# EAGLE library part ESP32-S3R2 (library ESP32-S3R2)
Check availability <https://pricing.snapeda.com/parts/ESP32-S3R2/Espressif%20Systems/view-part?ref=eda> Check availability <https://pricing.snapeda.com/parts/ESP32-S3R2/Espressif%20Systems/view-part?ref=eda>
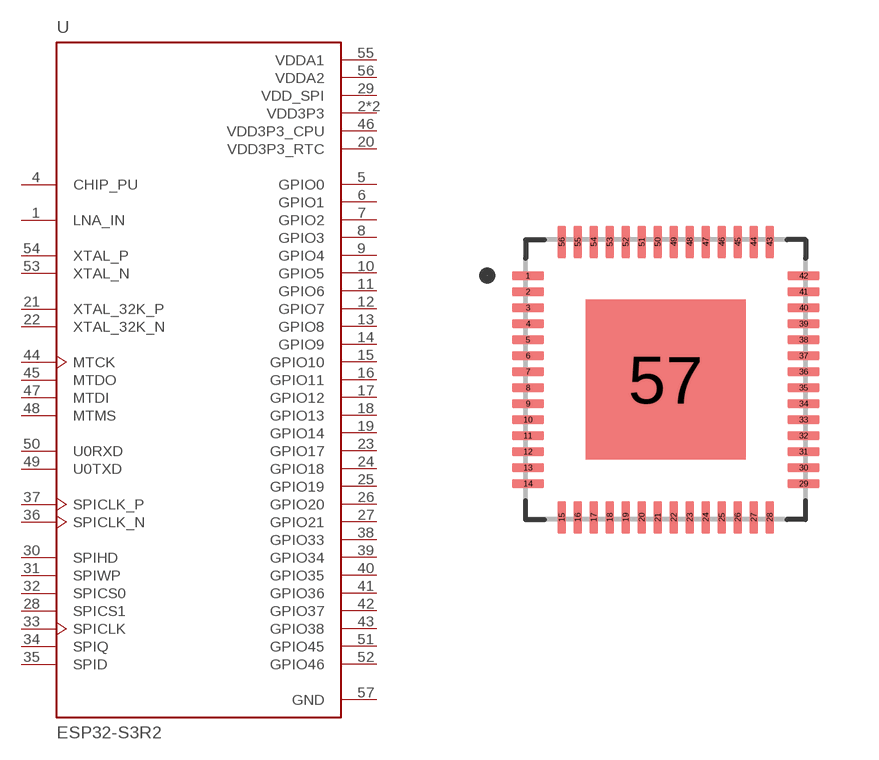
[diagram p0: symbol with the pads of QFN40P700X700X90-57N; footprint QFN40P700X700X90-57N]

Designator prefix U

## ESP32-S3R2 (Description: IC RF TxRx + MCU Bluetooth, WiFi 802.11b/g/n, Bluetooth v5.0 2.412GHz ~ 2.484GHz 56-VFQFN Exposed Pad; Digi-Key_Part_Number: 1904-ESP32-S3R2-ND; MF: Espressif Systems; MP: ESP32-S3R2; Package: None; Purchase-URL: https://pricing.snapeda.com/search/part/ESP32-S3R2/?ref=eda)  [QFN40P700X700X90-57N]
1  LNA_IN
2  VDD3P3  pwr
3  VDD3P3  pwr
4  CHIP_PU  in
5  GPIO0
6  GPIO1
7  GPIO2
8  GPIO3
9  GPIO4
10  GPIO5
11  GPIO6
12  GPIO7
13  GPIO8
14  GPIO9
15  GPIO10
16  GPIO11
17  GPIO12
18  GPIO13
19  GPIO14
20  VDD3P3_RTC  pwr
21  XTAL_32K_P
22  XTAL_32K_N
23  GPIO17
24  GPIO18
25  GPIO19
26  GPIO20
27  GPIO21
28  SPICS1
29  VDD_SPI  pwr
30  SPIHD
31  SPIWP
32  SPICS0
33  SPICLK
34  SPIQ
35  SPID
36  SPICLK_N
37  SPICLK_P
38  GPIO33
39  GPIO34
40  GPIO35
41  GPIO36
42  GPIO37
43  GPIO38
44  MTCK
45  MTDO
46  VDD3P3_CPU  pwr
47  MTDI
48  MTMS
49  U0TXD
50  U0RXD
51  GPIO45
52  GPIO46
53  XTAL_N  out
54  XTAL_P  in
55  VDDA1  pwr
56  VDDA2  pwr
57  GND  pwr

## Footprint QFN40P700X700X90-57N (pad centres in mm)
smd 0.81 x 0.22: 1 -3.445,2.6; 2 -3.445,2.2; 3 -3.445,1.8; 4 -3.445,1.4; 5 -3.445,1; 6 -3.445,0.6; 7 -3.445,0.2; 8 -3.445,-0.2; 9 -3.445,-0.6; 10 -3.445,-1; 11 -3.445,-1.4; 12 -3.445,-1.8; 13 -3.445,-2.2; 14 -3.445,-2.6; 29 3.445,-2.6; 30 3.445,-2.2; 31 3.445,-1.8; 32 3.445,-1.4; 33 3.445,-1; 34 3.445,-0.6; 35 3.445,-0.2; 36 3.445,0.2; 37 3.445,0.6; 38 3.445,1; 39 3.445,1.4; 40 3.445,1.8; 41 3.445,2.2; 42 3.445,2.6
smd 0.22 x 0.81: 15 -2.6,-3.445; 16 -2.2,-3.445; 17 -1.8,-3.445; 18 -1.4,-3.445; 19 -1,-3.445; 20 -0.6,-3.445; 21 -0.2,-3.445; 22 0.2,-3.445; 23 0.6,-3.445; 24 1,-3.445; 25 1.4,-3.445; 26 1.8,-3.445; 27 2.2,-3.445; 28 2.6,-3.445; 43 2.6,3.445; 44 2.2,3.445; 45 1.8,3.445; 46 1.4,3.445; 47 1,3.445; 48 0.6,3.445; 49 0.2,3.445; 50 -0.2,3.445; 51 -0.6,3.445; 52 -1,3.445; 53 -1.4,3.445; 54 -1.8,3.445; 55 -2.2,3.445; 56 -2.6,3.445
smd 4 x 4: 57 0,0